# Altium schematic symbol library Schlib.SchLib: 46 symbols
Pins are listed as number, name and electrical type; pins without a type are passive.

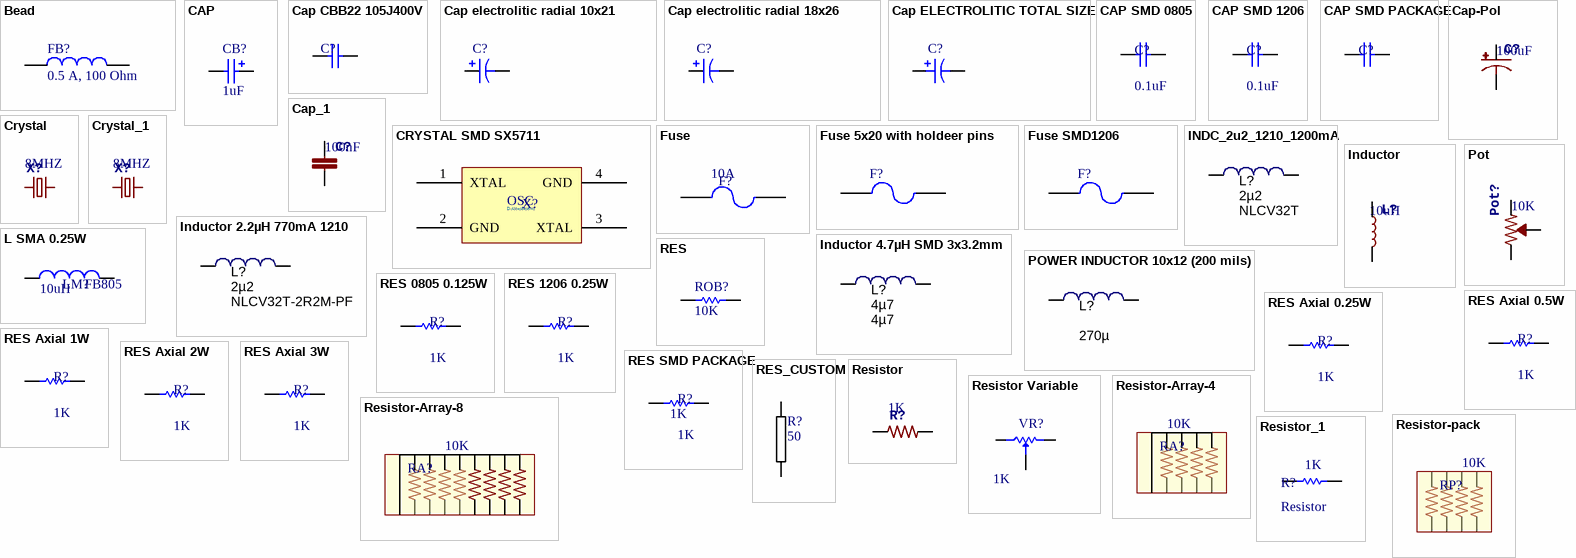
[diagram p0: symbols Bead to Resistor_1]

## Bead
designator FB?, comment 0.5 A, 100 Ohm
WE-CBA SMD EMI Suppression Ferrite Bead, 0603, High Speed, 0.5 A, 100 Ohm; Part Number: 782631101; Rated Current: 0.5 A; Impedance: 100 Ohm; DC Resistance max.: 0.2 Ohm; ComponentLink1Description: Manufacturer; ComponentLink1URL: http://www.we-online.de; ComponentLink2Description: Datasheet; ComponentLink2URL: http://katalog.we-online.de/pbs/datasheet/782631101.pdf; Published Date: Oct. 2017; Publisher: Wurth Elektronik; Size: 0603; Type: High Speed; Operating Temperature: -55 to 125 degC
footprint 0603_Wide Band/High Speed
pins: 1, 2

## CAP
designator CB?  value 1uF  (hidden comment: CAP)
WCAP-ASLI Aluminum Electrolytic Capacitors, size Ф4x5.5mm, 6.3V DC, 22uF; Part Number: 865080140001; Rated Voltage: 6.3V DC; ComponentLink1Description: Manufacturer; ComponentLink1URL: http://www.we-online.de; ComponentLink2Description: Datasheet; ComponentLink2URL: http://katalog.we-online.de/pbs/datasheet/865080140001.pdf; Published Date: June 2017; Publisher: Wurth Elektronik; Size: Ф4x5.5mm; Life Cycle: 2000h; Operating Temperature: -55 °C up to +105 °C
footprint WCAP-ASLI_4x5.5
pins: 1 P, 2 N

## Cap CBB22 105J400V
designator C?
Polypropylene film with epoxy Cap CBB22 105J400V; Manufacturer: CHINA; Designer: Abbas Basereh; Data: 16-12-2016; Link: https://www.alibaba.com/product-detail/CBB22-capacitors-105J-400V-1UF-400V_60020643516.html; Part. No: 105J400V
footprint CBB22 (W23_0_H14_5_T8_0_P19)
pins: 1, 2
1 alternate drawing of the same symbol

## Cap electrolitic radial 10x21
designator C?, comment Cap 10x21  (value not drawn)
Cap electrolitic radial; Part. No: 100U/50V; Designer: Abbas Basereh; Data: 16-12-2016
footprint Cap electrolitic radial 10x20-5 (Cap electrolitic radial 10x20-5-Design:Abbas Basereh)
pins: 1, 2
1 alternate drawing of the same symbol

## Cap electrolitic radial 18x26
designator C?, comment Cap 18x26  (value not drawn)
Cap electrolitic radial; Designer: Abbas Basereh; Value: 3300uF25V; Data: 16-12-2016
footprint Cap electrolitic radial 18x26
pins: 1, 2
1 alternate drawing of the same symbol

## Cap ELECTROLITIC TOTAL SIZE
designator C?, comment 100uF50V  (value not drawn)
Cap electrolitic radial; Designer: Abbas Basereh; Data: 16-12-2016; Part. No: *; VALUE: 100uF50V
footprint Cap electrolitic radial 10x20-5 (Cap electrolitic radial 10x20-5-Design:Abbas Basereh)
footprint Cap electrolitic radial 8x12-3.5 (Cap electrolitic radial 8x12-3.5-Design:Abbas Basereh)
footprint Cap electrolitic radial 10x16-5 (Cap electrolitic radial 10x16-5-Design:Abbas Basereh)
footprint Cap electrolitic radial 10x25-5 (Cap electrolitic radial 10x25-5-Design:Abbas Basereh)
footprint Cap electrolitic radial 10x30-5 (Cap electrolitic radial 10x30-5-Design:Abbas Basereh)
footprint Cap electrolitic radial 12.5x20-5 (Cap electrolitic radial 12.5x20-5-Design:Abbas Basereh)
footprint Cap electrolitic radial 12.5x25-5 (Cap electrolitic radial 12.5x25-5-Design:Abbas Basereh)
footprint Cap electrolitic radial 13x25-5 (Cap electrolitic radial 13x25-5-Design:Abbas Basereh)
footprint Cap electrolitic radial 16x26-7.5 (Cap electrolitic radial 16x26-7.5-Design:Abbas Basereh)
footprint Cap electrolitic radial 16x31.5-7.5 (Cap electrolitic radial 16x31.5-7.5-Design:Abbas Basereh)
footprint Cap electrolitic radial 18x26 (Cap electrolitic radial 18x26-Design:Abbas Basereh)
footprint Cap electrolitic radial 18x36-7.5 (Cap electrolitic radial 18x36-7.5-Design:Abbas Basereh)
footprint Cap electrolitic radial 18x40-7.5 (Cap electrolitic radial 18x40-7.5-Design:Abbas Basereh)
footprint Cap electrolitic radial 5x11-2 (Cap electrolitic radial 5x11-2-Design:Abbas Basereh)
footprint Cap electrolitic radial 5x12-2 (Cap electrolitic radial 5x12-2-Design:Abbas Basereh)
footprint Cap electrolitic radial 8x14-3.5 (Cap electrolitic radial 8x14-3.5-Design:Abbas Basereh)
footprint Cap electrolitic radial 6x7-2.5 (Cap electrolitic radial 6x7-2.5-Design:Abbas Basereh)
pins: 1, 2
1 alternate drawing of the same symbol

## CAP SMD 0805
designator C?, comment 0.1uF
CAP 0805; Designer: Abbas Basereh; Desc.: CAP SMD 0805; Data: 16-12-2016
footprint CAPC3413X12N (Chip Capacitor, 2-Leads, Body 3/40x1/30mm, IPC Medium Density)
pins: 1, 2

## CAP SMD 1206
designator C?, comment 0.1uF
CAP 1206; Designer: Abbas Basereh; Desc.: CAP SMD 1206; Data: 16-12-2016
footprint CAPC4817X12N (Chip Capacitor, 2-Leads, Body 4/80x1/70mm, IPC Medium Density)
pins: 1, 2

## CAP SMD PACKAGE
designator C?
TOTAL CAPACITOR SMD PACK; Designer: Abbas Basereh; Desc.: CAP SMD TOTAL PACKAGES; Data: 2017-3-10
signal-integrity model CAP SMD (CAP SMD PACK)
footprint CAP0201 (Chip Capacitor, 2-Leads, Body 0/60x0/30mm, IPC Medium Density DESIGNER:ABBAS BASEREH)
footprint CAP0402 (Chip Capacitor, 2-Leads, Body 1/00x0/50mm, IPC Medium Density DESIGNER:ABBAS BASEREH)
footprint CAP0603 (Chip Capacitor, 2-Leads, Body 1/60x0/80mm, IPC Medium Density DESIGNER:ABBAS BASEREH)
footprint CAP0805 (Chip Capacitor, 2-Leads, Body 2/00x1/25mm, IPC Medium Density DESIGNER:ABBAS BASEREH)
footprint CAP1206 (Chip Capacitor, 2-Leads, Body 3/20x1/60mm, IPC Medium Density DESIGNER:ABBAS BASEREH)
footprint CAP1210 (Chip Capacitor, 2-Leads, Body 3/20x2/50mm, IPC Medium Density DESIGNER:ABBAS BASEREH)
footprint CAP1812 (Chip Capacitor, 2-Leads, Body 4/50x3/20mm, IPC Medium Density DESIGNER:ABBAS BASEREH)
footprint CAP2010 (Chip Capacitor, 2-Leads, Body 5/00x2/50mm, IPC Medium Density DESIGNER:ABBAS BASEREH)
footprint CAP2512 (Chip Capacitor, 2-Leads, Body 6/40x3/20mm, IPC Medium Density DESIGNER:ABBAS BASEREH)
footprint CAP_TANTAL_D
pins: 1, 2

## Cap-Pol
designator C?  value 100uF  (hidden comment: Cap-Pol)
footprint _CPOL-RADIAL-2MM-4MM
footprint _CPOL-RADIAL-2.5MM-5MM
footprint _CPOL-RADIAL-2.5MM-6.5MM
footprint _CPOL-RADIAL-5MM-10MM
footprint _CPOL-RADIAL-5MM-13MM
footprint _CPOL-RADIAL-8MM-17MM
footprint _CPOL-RADIAL-7.5MM-15MM
footprint _CPOL_SMD-4.5MM
footprint _CPOL_SMD-6.8MM
footprint _CPOL_SMD-8.3MM
footprint _EIA3216
footprint _EIA3528
footprint _EIA6032
footprint _EIA7343
pins: +, -

## Cap_1
designator C?, comment value 100nF  (hidden comment: Cap)
footprint _0402
footprint _0603
footprint _0805
footprint _1206
footprint _RAD-0.1
footprint _RAD-0.2
footprint _RAD-0.3
footprint _RAD-0.4
footprint _RAD-0.5
footprint _RAD-0.6
footprint _RAD-0.7 (22.60mm)
pins: 1, 2

## Crystal
designator X?  value 8MHZ
footprint _CRYSTAL-HC49UP
footprint _CRYSTAL-HC49US
footprint _CRYSTAL-SMD-2X6
footprint _CRYSTAL-SMD-7.4X3.4
footprint _CRYSTAL-SMD-MC-146
footprint _RAD-0.1 (2.54mm)
pins: 1, 2

## CRYSTAL SMD SX5711
designator X?
High frequency stability and reliability SEAM CRYSTAL; ComponentAvailability: Not recommended for new design.; Published: 2017-2-4; DatasheetVersion: 4-2-2017; PackageVersion: 4-2-2017; PackageReference: SMD SEAM CRYSTAL SX5711; Publisher: Abbas Basereh; PackageDescription: SMD; Supplier 1: ALIBABA; Supplier Part Number 1: SX5711; Supplier 2: ALIEXPRESS; Supplier 3: Mouser; ComponentLink1Description: High frequency stability and reliability SEAM CRYSTAL; ComponentLink2Description: SX5711; ComponentLink3Description: SX5711
footprint SMD SEAM CRYSTAL SX5711 (High frequency stability and reliability.DESIGNER ABBAS BASEREH)
pins: 1 XTAL, 2 GND, 3 XTAL, 4 GND
text: OSC; D:AbbasBasereh

## Crystal_1
designator X?  value 8MHZ
footprint _CRYSTAL-HC49UP
footprint _CRYSTAL-HC49US
footprint _CRYSTAL-SMD-2X6
footprint _CRYSTAL-SMD-7.4X3.4
footprint _CRYSTAL-SMD-MC-146
footprint _RAD-0.1 (2.54mm)
pins: 1, 2

## Fuse
designator F?  value 10A
footprint _0805 (Footprint not found)
footprint _1206 (Footprint not found)
footprint _Axial-0.3 (Footprint not found)
footprint _Axial-0.4 (Footprint not found)
footprint _FUSE1 (Footprint not found)
pins: 1, 2

## Fuse 5x20 with holdeer pins
designator F?, comment F=1.0 A  (value not drawn)
Fuses 5x20; Designer: Abbas Basereh; Desc.: fuse with holder pins 5x20; Data: 28-12-2016
footprint Fuse 5x20 With holder pin (Dsigner : Abbas Basereh)
pins: 1, 2

## Fuse SMD1206
designator F?, comment F=1.0 A  (value not drawn)
SMD Fuses 1206; Designer: Abbas Basereh; Desc.: SMD Fuses 1206; Data: 16-12-2016
footprint 1206 FUSE (Fast Acting Smd 1206 non-Resettable Fuse Chip For Pcb Board)
pins: 1, 2

## INDC_2u2_1210_1200mA
designator L?, comment NLCV32T  value 2µ2
Inductor 2.2uH 1.2A 1210 SMD chip; Manufacturer 1: TDK Corporation; Manufacturer Part Number 1: NLCV32T-2R2M-PFR; Ratings: 1.2 Adc; Tolerance: ±20%; Type: Ferrite Core; DC Resistance (DCR): 115 mOhm; Q @ Freq: 15 @ 7.96MHz; Frequency - Self Resonant: 68MHz; Frequency - Test: 7.96MHz; SCDType: source; Package / Case: 1210 (3225 Metric); Supplier 1: Digi-Key; Supplier Part Number 1: 445-3650-1-ND; ComponentLink1URL: http://www.tdk.co.jp/tefe02/e511_nlcv_nlc.pdf; ComponentLink1Description: http://www.tdk.co.jp/tefe02/e511_nlcv_nlc.pdf; Operating Temperature: -40°C ~ 125°C
footprint INDM3225X240N (Molded Inductor, 2-Leads, Body 3.2x2.5mm, IPC Medium Density)
pins: 1, 2

## Inductor
designator L?  value 10uH
footprint _0402
footprint _0603
footprint _0805
footprint _AXIAL-0.1
footprint _AXIAL-0.3
footprint _AXIAL-0.4
footprint _INDUCTOR-SMD-6.0mm
footprint _INDUCTOR-SMD-8.0mm
footprint _INDUCTOR-SMD-13.0mm
pins: 1, 2

## Inductor 2.2µH 770mA 1210
designator L?, comment NLCV32T-2R2M-PF  value 2µ2
2.2µH Unshielded Wirewound Inductor 770mA 169 mOhm Max 1210 (3225 Metric); Manufacturer 1: TDK Corporation; Tolerance: ±20%; Type: Ferrite Core; Q @ Freq: 15 @ 7.96MHz; Frequency - Self Resonant: 68MHz; Frequency - Test: 7.96MHz; SCDType: source; Package / Case: 1210 (3225 Metric); DC Resistance (DCR): 169 mOhm; Supplier 1: Digi-Key; Manufacturer Part Number 1: NLCV32T-2R2M-PF; ComponentLink1URL: http://www.digikey.com/products/en/inductors-coils-chokes/4; ComponentLink1Description: http://www.digikey.com/products/en/inductors-coils-chokes/4; Operating Temperature: -40°C ~ 125°C
footprint INDM3225X240N (Molded Inductor, 2-Leads, Body 3.2x2.5mm, IPC Medium Density)
pins: 1, 2

## Inductor 4.7µH SMD 3x3.2mm
designator L?, comment 4µ7
Inductor 4.7µH SMD 3x3.2mm; Tolerance: ±20%; Type: Ferrite Core; SCDType: source; Package / Case: Inductor 4.7µH SMD 3x3.2mm; Supplier 1: Digi-Key; Operating Temperature: -40°C ~ 125°C; Value: 4µ7
footprint Inductor SMD 3x3.2mm (Inductor 4.7µH SMD 3x3.2mm)
pins: 1, 2

## L SMA 0.25W
designator LM?, comment 10uH  value FB805
Inductor; Code_IEC: 1005; Published: 8-Jun-2000; LatestRevisionDate: 29-May-2009; LatestRevisionNote: IPC-7351 Footprint Added.; PackageReference: 0402-A; Publisher: Altium Limited; PackageDescription: Chip Inductor; Code_JEITA: 0402
footprint 0805L (,0805, 2012, 200X130)
pins: 1, 2

## Pot
designator Pot?  value 10K
footprint _POT Small
footprint _POT-SMD-3MM-CLOSED
footprint _POT_MultiTurn
pins: 1 CCW, 2 WIPER, 3 CW

## POWER INDUCTOR 10x12 (200 mils)
designator L?, comment 270µ
POWER INDUCTOR 10x12 (200 mils); Tolerance: ±20%; Type: Ferrite Core; SCDType: source; Package / Case: POWER INDUCTOR 10x12 (200 mils); Supplier 1: Digi-Key; Operating Temperature: -40°C ~ 125°C; Value: 270µ; PUBLISHER: ABBAS BASEREH  2017-3-1
footprint Inductor 10x12 (200 mils) (POWER INDUCTOR 10x12 (200 mils) DESIGNER ABBAS BASEREH)
pins: 1, 2

## RES
designator ROB?, comment 10K
RES 0805; Designer: Abbas Basereh; Desc.: RES SMD 0805; Data: 16-12-2016
footprint RESC3413X04N (Chip Resistor, 2-Leads, Body 3/40x1/30mm, IPC Medium Density)
pins: 1, 2

## RES 0805 0.125W
designator R?, comment 1K
RES 0805; Designer: Abbas Basereh; Desc.: RES SMD 0805; Data: 16-12-2016
footprint RESC3413X04N (Chip Resistor, 2-Leads, Body 3/40x1/30mm, IPC Medium Density)
pins: 1, 2

## RES 1206 0.25W
designator R?, comment 1K
RES 1206; Designer: Abbas Basereh; Desc.: RES SMD 1206; Data: 16-12-2016
footprint RESC4817X04N (Chip Resistor, 2-Leads, Body 4/80x1/70mm, IPC Medium Density)
pins: 1, 2

## RES Axial 0.5W
designator R?, comment 1K
RES Axial 0.5W; Designer: Abbas Basereh; Desc.: RES Axial 0.5W; Data: 4-1-2017
footprint Axial 0_5W 5_0mm (Designer Abbas Basereh)
pins: 1, 2

## RES Axial 0.25W
designator R?, comment 1K
RES Axial 0.25W; Designer: Abbas Basereh; Desc.: RES Axial 0.25W; Data: 4-1-2017
footprint Axial 0_25w_2_54mm (Designer Abbas Basereh)
footprint Axial 0_25 W, 0_4 IN LEAD PITCH (Designer Abbas Basereh)
pins: 1, 2

## RES Axial 1W
designator R?, comment 1K
RES Axial 1W; Designer: Abbas Basereh; Desc.: RES Axial 1W; Data: 4-1-2017
footprint Axial 1W  7_0mm (Designer Abbas Basereh)
pins: 1, 2

## RES Axial 2W
designator R?, comment 1K
RES Axial 2W; Designer: Abbas Basereh; Desc.: RES Axial 2W; Data: 4-1-2017
footprint Axial 2W 8_0mm (Designer Abbas Basereh)
pins: 1, 2

## RES Axial 3W
designator R?, comment 1K
RES Axial 3W; Designer: Abbas Basereh; Desc.: RES Axial 3W; Data: 4-1-2017
footprint Axial 3W 9_0mm (Designer Abbas Basereh)
pins: 1, 2

## RES SMD PACKAGE
designator R?, comment 1K
TOTAL SMD RESISTOR PACK; Designer: Abbas Basereh; Desc.: RES SMD PAKAGES; Data: 2017-3-10; VALUE: 1K
footprint RES0201 (Chip Resistor, 2-Leads, Body 0/60x0/30mm, IPC Medium Density DESIGNER:ABBAS BASEREH)
footprint RES0402 (Chip Resistor, 2-Leads, Body 1/00x0/50mm, IPC Medium Density DESIGNER:ABBAS BASEREH)
footprint RES0603 (Chip Resistor, 2-Leads, Body 1/60x0/80mm, IPC Medium Density DESIGNER:ABBAS BASEREH)
footprint RES0805 (Chip Resistor, 2-Leads, Body 2/00x1/25mm, IPC Medium Density DESIGNER:ABBAS BASEREH)
footprint RES1206 (Chip Resistor, 2-Leads, Body 3/20x1/60mm, IPC Medium Density DESIGNER:ABBAS BASEREH)
footprint RES1210 (Chip Resistor, 2-Leads, Body 3/20x2/50mm, IPC Medium Density DESIGNER:ABBAS BASEREH)
footprint RES1812 (Chip Resistor, 2-Leads, Body 4/50x3/20mm, IPC Medium Density DESIGNER:ABBAS BASEREH)
footprint RES2010 (Chip Resistor, 2-Leads, Body 5/00x2/50mm, IPC Medium Density DESIGNER:ABBAS BASEREH)
footprint RES2512 (Chip Resistor, 2-Leads, Body 6/40x3/20mm, IPC Medium Density DESIGNER:ABBAS BASEREH)
pins: 1, 2

## RES_CUSTOM
designator R?, comment 50
RESISTOR 0603 VALUE TO BE DETERMINED
footprint 0603R-TBD (RESISTOR 0603 VALUE TO BE DETERMINED)
pins: 1, 2

## Resistor
designator R?  value 1K  (hidden comment: Resistor)
footprint _0402
footprint _0603
footprint _0805
footprint _1206
footprint _1210
footprint _2010
footprint _AXIAL-0.1
footprint _AXIAL-0.3
footprint _AXIAL-0.4
footprint _AXIAL-0.5
footprint _AXIAL-0.6
footprint _AXIAL-0.7
pins: 1, 2

## Resistor Variable
designator VR?, comment 1K
Variable Resistor; Designer: Saeid Jorablo; Company: ControTec; Adding Date: 137/12/22; Value: 1K
footprint Pot 00
footprint Multi Turn 02
pins: 1 CCW, 2 CW, 3 Setpoint

## Resistor-Array-4
designator RA?  value 10K  (hidden comment: Resistor-Array-4)
footprint _HDR1X5 (Connector; Header; 5 Position)
pins: 1 Com, 2, 3, 4, 5

## Resistor-Array-8
designator RA?  value 10K  (hidden comment: Resistor-Array-8)
footprint _HDR1X9 (Connector; Header; 9 Position)
pins: 1 Com, 2, 3, 4, 5, 6, 7, 8, 9

## Resistor-pack
designator RP?  value 10K  (hidden comment: Resistor-pack)
footprint _0805-4
pins: 1, 2, 3, 4, 5, 6, 7, 8

## Resistor_1
designator R?, comment Resistor  value 1K
Email: razi.vesali@gmail.com; Published: 17-Jun-2016; LatestRevisionNote: Re-released for puplic; Publisher: Seyed Razi Vesali
footprint Resistor_0.25w-0.3 (Axial Device, Thru-Hole; 2 Leads; 0.3 in Pin Spacing)
footprint Resistor_0.25w-0.4 (Axial Device, Thru-Hole; 2 Leads; 0.4 in Pin Spacing)
footprint Resistor_0.25W_Stand
footprint Resistor_0.5W
footprint Resistor_3W
footprint Resistor_SMD_0201 (0603)
footprint Resistor_SMD_0402 (1005)
footprint Resistor_SMD_0603 (1608)
footprint Resistor_SMD_0805 (2012)
footprint Resistor_SMD_1218 (3246)
footprint Resistor_SMD_2010 (5025)
footprint Resistor_SMD_1206 (3216)
footprint Resistor_0.25w-0.5 (Axial Device, Thru-Hole; 2 Leads; 0.3 in Pin Spacing)
footprint Resistor_0.25w-0.2 (Axial Device, Thru-Hole; 2 Leads; 0.3 in Pin Spacing)
footprint Resistor_SMD_1210 (3225) (Chip Resistor, 2-Leads, Body 3.2x2.6mm, IPC High Density _ (0.250 W))
footprint Resistor_SMD_1217 (3042) (Chip Resistor, 2-Leads, Body 3.0x4.2mm, IPC High Density _ (0.250 W))
footprint Resistor_SMD_2512 (6332)
pins: 1, 2

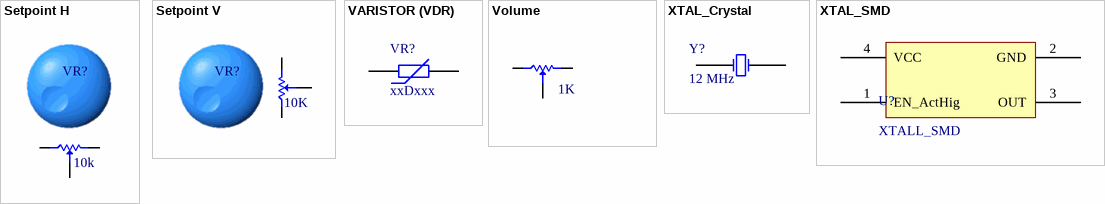
[diagram p1: symbols Setpoint H to XTAL_SMD]

## Setpoint H
designator VR?, comment 10k
Variable Resistor; Designer: Saeid Jorablo; Company: *; Value: 10k
footprint Setpoint POT
pins: 1 CCW, 2 CW, 3 Setpoint

## Setpoint V
designator VR?, comment 10K
Variable Resistor; Designer: Saeid Jorablo; Company: *; Value: 10K
footprint Setpoint POT
pins: 1 CCW, 2 CW, 3 SetPoint

## VARISTOR (VDR)
designator VR?, comment xxDxxx
VARISTORS; Manufacturer: china-canada-philipina; Designer: Abbas Basereh; Models: MOV-VDR-COV; Data: 2017-1-5; Link: digikey.com; VALUE: xxDxxx; PUBLISHER: ABBAS BASEREH
footprint 05D XXX (MOV-05DxxxK Metal Oxide Varistors (MOVs) are 5 mm-Design:Abbas Basereh)
footprint 07D XXX (MOV-07DxxxK Metal Oxide Varistors (MOVs) are 7 mm-Design:Abbas Basereh)
footprint 10D XXX (MOV-10DxxxK Metal Oxide Varistors (MOVs) are 10 mm-Design:Abbas Basereh)
footprint 14D XXX (MOV-14DxxxK Metal Oxide Varistors (MOVs) are 14 mm-Design:Abbas Basereh)
footprint 20D XXX (MOV-20DxxxK Metal Oxide Varistors (MOVs) are 20 mm-Design:Abbas Basereh)
footprint 23D XXX (MOV-23DxxxK Metal Oxide Varistors (MOVs) are 23 mm-Design:Abbas Basereh)
pins: 1, 2

## Volume
designator VR  value 1K  (hidden comment: Volume)
Email: Razi.vesali@gmail.com; LatestRevisionDate: 17-Jul-2016; LatestRevisionNote: Re-released for Puplic; Publisher: Seyed Razi vesali (SRV)
footprint Volume
footprint Volume - multi turn
pins: 1 CCW, 2 CW, 3 Setpoint

## XTAL_Crystal
designator Y?, comment 12 MHz
XTAL Crystal; Designer: ABBAS BASEREH; Design Date: 2017-1-3; ComponentLink1Description: Datasheet; ComponentLink2Description: Reference; Mounting Technology: Surface Mount\Through-Hole; Value: 12 MHz; Status: Unreleased
footprint CRYSTAL Small (DESIGNER ABBAS BASEREH)
footprint Crystal SMD (DESIGNER ABBAS BASEREH)
pins: 1 OSC1, 2 OSC2

## XTAL_SMD
designator U?, comment XTALL_SMD
footprint XTAL_SMD
pins: 1 EN_ActHig, 2 GND, 3 OUT, 4 VCC